# EAGLE library part ADJ14024 (library FSAE Electric)
General Purpose Relay SPDT 16A 24V View on DigiKey <http://www.digikey.com/product-search/en?keywords=ADJ14024>
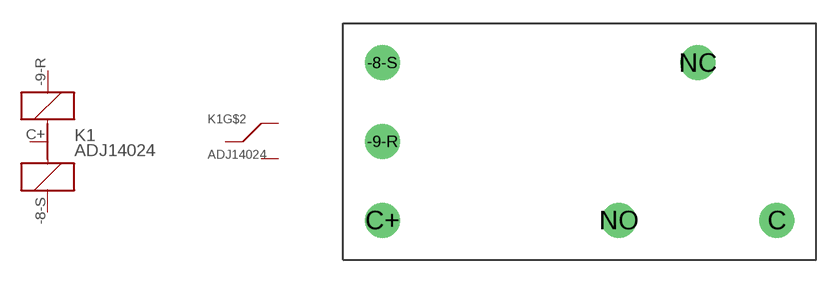
[diagram p53: symbol with the pads of ADJ14024; footprint ADJ14024]

Designator prefix K1; gates G$1=DUAL-COIL G$2=SPDT

## ADJ14024 (PARTNO: ADJ14024)  [ADJ14024]
-8-S  G$1:+1  pas
-9-R  G$1:+2  pas
C  G$2:C
C+  G$1:-  pas
NC  G$2:NC
NO  G$2:NO

## Footprint ADJ14024 (pad centres in mm)
drill 1.5: -8-S 0,5.08; -9-R 0,0; C 25.4,-5.08; C+ 0,-5.08; NC 20.32,5.08; NO 15.24,-5.08